# Altium schematic symbol library Movandi_15.SchLib: 8 symbols
Pins are listed as number, name and electrical type; pins without a type are passive.

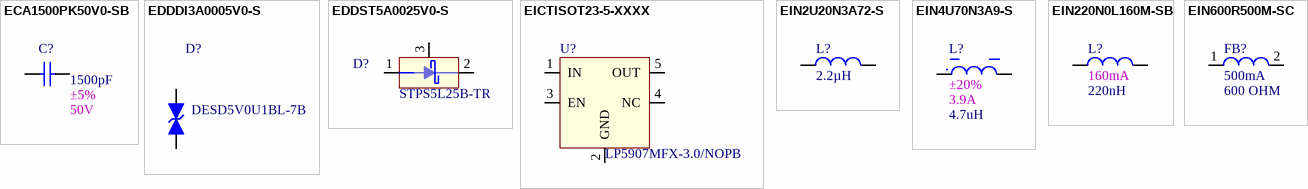
[diagram p0: symbols ECA1500PK50V0-SB to EIN600R500M-SC]

## ECA1500PK50V0-SB
designator C?, comment value 1500pF  2nd Auxiliary Field: ±5%  1st Auxiliary Field: 50V  (hidden comment: CAP CER 1500PF 50V NP0 0402)
Manufacturer: KEMET; Vendor Part Number: 399-14424-1-ND; Manufacturer Part Number: C0402C152J5GAC7867; Internal Part Number: ECA1500PK50V0-SB; Vendor Name: DigiKey; 3rd Auxiliary Field: ROHS3 Compliant; Component Height (mm): 0.55mm; Temp Co: C0G, NP0; Part type: CAP CER 1500PF 50V NP0 0402; 4th Auxiliary Field: *
footprint SMDCC0402
footprint SMDC0402
pins: 1, 2

## EDDDI3A0005V0-S
designator D?, comment value DESD5V0U1BL-7B  (hidden comment: TVS DIODE 5V 7.2V DFN1006-2)
Manufacturer: Diodes Incorporated; Internal Part Number: EDDDI3A0005V0-S; Vendor Part Number: 31-DESD5V0U1BL-7BCT-ND; 2nd Auxiliary Field: 3A; 3rd Auxiliary Field: ROHS3 Compliant; Component Height (mm): 0.53mm; Temp Co: -65°C ~ 150°C (TJ); Vendor Name: Digi-Key; 1st Auxiliary Field: 5V (Max); Manufacturer Part Number: DESD5V0U1BL-7B; Part Type: TVS DIODE 5V 7.2V DFN1006-2; 4th Auxiliary Field: *
footprint DIO_DESD5V0U1BL-7B
pins: 1, 2

## EDDST5A0025V0-S
designator D?, comment value STPS5L25B-TR  (hidden comment: DIODE SCHOTTKY 25V 5A DPAK)
Manufacturer: STMicroelectronics; Vendor Part Number: 497-8038-1-ND; Internal Part Number: EDDST5A0025V0-S; Vendor Name: Digi-Key; 3rd Auxiliary Field: 470mV @ 5A; 4th Auxiliary Field: ROHS3 Compliant; Component Height (mm): 2.4mm; Temp Co: -65°C ~ 150°C; Part Type: DIODE SCHOTTKY 25V 5A DPAK; 2nd Auxiliary Field: 5A; 1st Auxiliary Field: 25V; Manufacturer Part Number: STPS5L25B-TR
footprint DPAK228P988X240-3N (D-PAK, 3-Pads, Body 6.47x6.54mm (max), IPC Medium Density)
pins: 1 A, 2 K, 3 NC

## EICTISOT23-5-XXXX
designator U?, comment value LP5907MFX-3.0/NOPB  (hidden comment: IC REG LINEAR 3V 250MA SOT23-5)
Internal Part Number: EICTISOT23-5-XXXX; Manufacturer: Texas Instruments; Vendor Part Number: 296-40357-1-ND; 1st Auxiliary Field: 5.5V; 3rd Auxiliary Field: RoHS3 Compliant; Component Height (mm): 1.45MM; Temp Coefficent: -40°C ~ 125°C; Vendor Name: Digi-Key; 2nd Auxiliary Field: 250mA; 4th Auxiliary Field: *; Part Type: IC REG LINEAR 3V 250MA SOT23-5; Manufacturer Part Number: LP5907MFX-3.0/NOPB
footprint SOT95P280X110-5N (Footprint not found)
pins: 1 IN, 2 GND (power), 3 EN, 4 NC, 5 OUT

## EIN2U20N3A72-S
designator L?, comment value 2.2µH  (hidden comment: FIXED IND 2.2UH 3.72A 94MOHM SMD)
Manufacturer Part Number: VLS4012HBX-2R2M; Manufacturer: TDK Corporation; Internal Part Number: EIN2U20N3A72-S; Vendor Part Number: 445-180917-1-ND; 3rd Auxiliary Field: ROHS3 Compliant; Component Height (mm): 1.20mm; Temp Co: -40°C ~ 105°C; Vendor Name: Digi-Key; 2nd Auxiliary Field: 94mOhm Max; Part Type: FIXED IND 2.2UH 3.72A 94MOHM SMD; 4th Auxiliary Field: *; 1st Auxiliary Field: 3.72A
footprint IND_VLS4012HBX-2R2M
pins: 1, 2

## EIN4U70N3A9-S
designator L?, comment value 4.7uH  2nd Auxiliary Field: ±20%  1st Auxiliary Field: 3.9A  (hidden comment: FIXED IND 4.7UH 3.9A 44 MOHM SMD)
Manufacturer: Würth Elektronik; Manufacturer Part Number: 74438357047; Vendor Part Number: 732-11202-1-ND; Internal Part Number: EIN4U70N3A9-S; Vendor Name: Digi-Key; 3rd Auxiliary Field: 44mOhm Max; 4th Auxiliary Field: ROHS3 Compliant; Component Height (mm): 3.10mm; Temp Co: -40°C ~ 125°C; Part Type: FIXED IND 4.7UH 3.9A 44 MOHM SMD
footprint IND_74438357047
pins: 1, 2

## EIN220N0L160M-SB
designator L?, comment value 220nH  1st Auxiliary Field: 160mA  (hidden comment: FIXED IND 220NH 160MA 790 MOHM)
EIN220NL160M-SB; Manufacturer: TDK Corporation; Internal Part Number: EIN220N0L160M-SB; Manufacturer Part Number: MLF1005VR22KT000; Vendor Part Number: 445-15706-1-ND; 3rd Auxiliary Field: ROHS3 Compliant; Component Height (mm): 0.55 mm; 4th Auxiliary Field: ±10%; Vendor Name: Digi-Key; Temp Co: -40°C ~ 85°C; 2nd Auxiliary Field: 220nH; Part Type: FIXED IND 220NH 160MA 790 MOHM
footprint SMDL0402
pins: 1, 2
1 alternate drawing of the same symbol

## EIN600R500M-SC
designator FB?, comment value 600 OHM  1st Auxiliary Field: 500mA  (hidden comment: FERRITE BEAD 600 OHM 0603 1LN)
Internal Part Number: EIN600R500M-SC; Manufacturer Part Number: BLM18AG601SN1D; Manufacturer: Murata Electronics North America; Vendor Part Number: 490-1014-1-ND; 3rd Auxiliary Field: ROHS Compliant; Component Height (mm): 0.95mm; Temp Coefficient: -55°C ~ 125°C; Vendor: Digikey; 2nd Auxiliary Field: *; 4th Auxiliary Field: *; Part Type: FERRITE BEAD 600 OHM 0603 1LN
footprint SMDL0603 (Chip Inductor, 2-Leads, Body 1.60x0.80mm, IPC Medium Density)
pins: 1, 2